# EAGLE library part TI-BQ76930-06DBTR-BMS (library ClintonLib)
TI 6-10 Cell Multi-Chemistry BMS AFE, I2C 30-TSSOP, .5mm pitch, 4.4mm Width OCP, OVP, UCP, SCP $4.80/1, $2.54/1000 Datasheet <http://www.ti.com/lit/ds/symlink/bq76930.pdf> Drawing <http://www.ti.com/lit/ml/mpds019h/mpds019h.pdf> Digikey <https://www.digikey.com/product-detail/en/texas-instruments/BQ7693006DBTR/296-39962-1-ND/5177839>
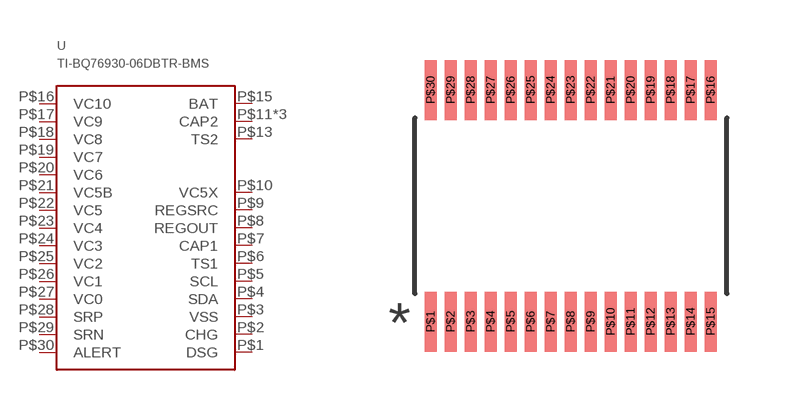
[diagram p29: symbol with the pads of TI-BQ-30-TFSOP-DBT-R-PDSO-G30; footprint TI-BQ-30-TFSOP-DBT-R-PDSO-G30]

Designator prefix -

## TI-BQ76930-06DBTR-BMS  [TI-BQ-30-TFSOP-DBT-R-PDSO-G30]
P$1  DSG
P$2  CHG
P$3  VSS
P$4  SDA
P$5  SCL
P$6  TS1
P$7  CAP1
P$8  REGOUT
P$9  REGSRC
P$10  VC5X
P$11  CAP2
P$12  CAP2
P$13  TS2
P$14  CAP2
P$15  BAT
P$16  VC10
P$17  VC9
P$18  VC8
P$19  VC7
P$20  VC6
P$21  VC5B
P$22  VC5
P$23  VC4
P$24  VC3
P$25  VC2
P$26  VC1
P$27  VC0
P$28  SRP
P$29  SRN
P$30  ALERT

## Footprint TI-BQ-30-TFSOP-DBT-R-PDSO-G30 (pad centres in mm)
TI 30-TFSOP/TSSOP DBT Package, 0.5mm Spacing <http://www.ti.com/lit/ml/mpds019h/mpds019h.pdf>
smd 0.3 x 1.5: P$1 0,0; P$2 0.5,0; P$3 1,0; P$4 1.5,0; P$5 2,0; P$6 2.5,0; P$7 3,0; P$8 3.5,0; P$9 4,0; P$10 4.5,0; P$11 5,0; P$12 5.5,0; P$13 6,0; P$14 6.5,0; P$15 7,0; P$16 7,5.8; P$17 6.5,5.8; P$18 6,5.8; P$19 5.5,5.8; P$20 5,5.8; P$21 4.5,5.8; P$22 4,5.8; P$23 3.5,5.8; P$24 3,5.8; P$25 2.5,5.8; P$26 2,5.8; P$27 1.5,5.8; P$28 1,5.8; P$29 0.5,5.8; P$30 0,5.8